# EAGLE library part 0672984090 (library 0672984090)
Conn USB 2.0 Type A RCP 8 POS 2mm/2.5mm Solder RA Thru-Hole 8 Terminal 2 Port USB Tray Source: Datasheet <https://www.molex.com/pdm_docs/sd/672984090_sd.pdf>
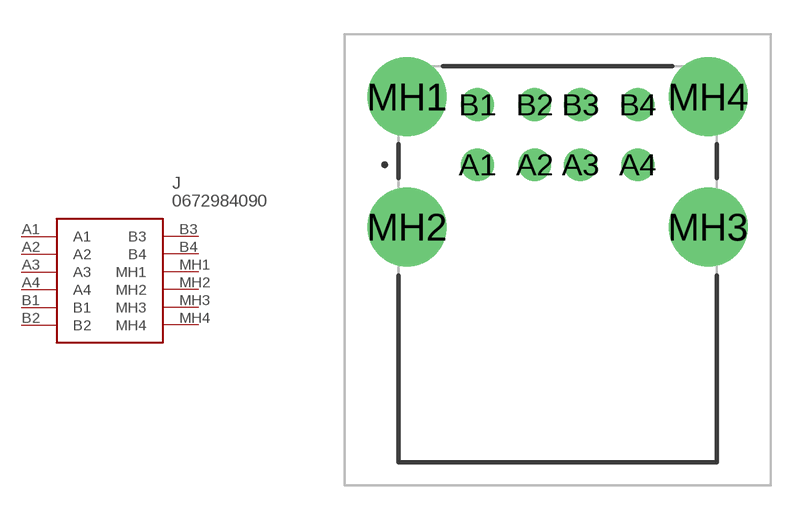
[diagram p0: symbol with the pads of 0672984090-1; footprint 0672984090-1]

Designator prefix J

## 0672984090 (Arrow_Part_Number: 0672984090; Arrow_Price-Stock: https://www.arrow.com/en/products/0672984090/molex; Description: Conn USB 2.0 Type A RCP 8 POS 2mm/2.5mm Solder RA Thru-Hole 8 Terminal 2 Port USB Tray; Height: mm; Manufacturer_Name: Molex; Manufacturer_Part_Number: 0672984090; Mouser_Part_Number: N/A; Mouser_Price-Stock: https://www.mouser.co.uk/ProductDetail/Molex/0672984090?qs=PBcRNPEHKspievjVq0oVuQ%3D%3D)  [0672984090-1]
A1  A1
A2  A2
A3  A3
A4  A4
B1  B1
B2  B2
B3  B3
B4  B4
MH1  MH1
MH2  MH2
MH3  MH3
MH4  MH4

## Footprint 0672984090-1 (pad centres in mm)
0672984090-1
drill 0.92 pad 1.431: A1 0,0; A2 2.5,0; A3 4.5,0; A4 7,0; B1 0,2.62; B2 2.5,2.62; B3 4.5,2.62; B4 7,2.62
drill 2.3 pad 3.45: MH1 -3.07,2.97; MH2 -3.07,-2.71; MH3 10.07,-2.71; MH4 10.07,2.97